# EAGLE library part MIC4826 (library Oles komponentbibliotek)
Micrel’s MIC4826 is a high output voltage, DC to AC converter, designed for driving EL (Electroluminescent) lamps. The device operates from an input voltage range of 1.8V to 5.5V.
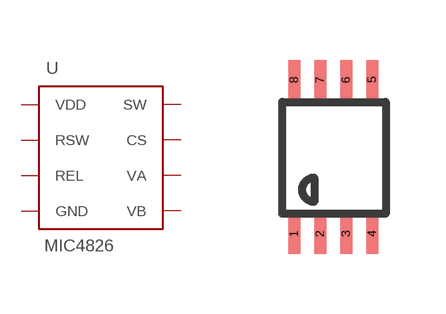
[diagram p37: symbol with the pads of MSOP8; footprint MSOP8]

Designator prefix -

## MIC4826  [MSOP8]
1  VDD  pwr
2  RSW  in
3  REL  in
4  GND  pwr
5  SW  in
6  CS  out
7  VB  pwr
8  VA  pwr

## Footprint MSOP8 (pad centres in mm)
10-Lead Mini Small Outline Package [MSOP]
smd 0.3 x 1: 1 -1.3,-1.905; 2 -0.65,-1.905; 3 0,-1.905; 4 0.65,-1.905; 5 0.65,1.95; 6 0,1.95; 7 -0.65,1.95; 8 -1.3,1.95